# Altium footprint library 430156043736.PcbLib: 1 footprints
Each footprint in its own frame and in the unit in brackets; x right, y up, seen from the top. Pads: shape width x height; smd on the part's side, far side on the other; paste and mask are expansions set on the pad; w line width, h text height; cw(c..) or ccw(c..) is an arc to the next point about the centre after c.
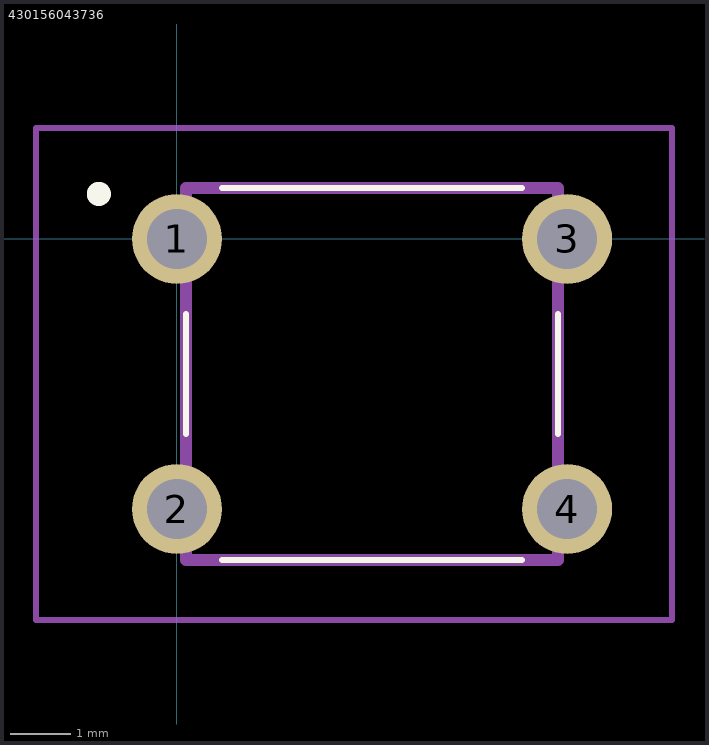
[diagram p0: the footprint, top view; thin cyan lines are the x and y axes]

## 430156043736 [mm]
pads (4):
  round 1.5 hole 1: 1(0,0) 2(0,-4.5) 3(6.5,0) 4(6.5,-4.5)
Top Overlay:
  lines w0.1: 0.15,-3.25 0.15,-1.25 ; 0.75,-5.35 5.75,-5.35 ; 0.75,0.85 5.75,0.85 ; 6.35,-3.25 6.35,-1.25
  lines w0.3: -1.35,0.75 cw(c-1.3,0.75) -1.25,0.75 ; -1.35,0.75 -1.35,0.75 ; -1.35,0.75 ccw(c-1.3,0.75) -1.25,0.75 ; -1.25,0.75 -1.25,0.75
Mechanical 15:
  lines w0.2: 0.15,-5.35 6.35,-5.35 6.35,0.85 0.15,0.85 0.15,-5.35
Mechanical 20:
  lines w0.1: -2.35,-6.35 8.25,-6.35 8.25,1.85 -2.35,1.85 -2.35,-6.35